# EAGLE library part ISL12024IBZ (library Intersil_By_element14_Batch_1)
Real-Time Clock/Calendar with Embedded Unique ID
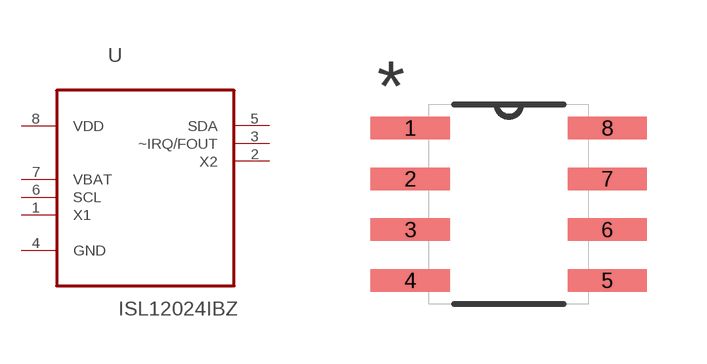
[diagram p215: symbol with the pads of SOIC127P600X175-8N; footprint SOIC127P600X175-8N]

Designator prefix U

## ISL12024IBZ (MPN: ISL12024IBZ; OC_FARNELL: 1360964; OC_NEWARK: 20M5181; PACKAGE: SOIC-8; SUPPLIER: INTERSIL)  [SOIC127P600X175-8N]
1  X1  in
2  X2  out
3  ~IRQ/FOUT  out
4  GND  pas
5  SDA
6  SCL  in
7  VBAT  pwr
8  VDD  pwr

## Footprint SOIC127P600X175-8N (pad centres in mm)
smd 1.981 x 0.559: 1 -2.464,1.905; 2 -2.464,0.635; 3 -2.464,-0.635; 4 -2.464,-1.905; 5 2.464,-1.905; 6 2.464,-0.635; 7 2.464,0.635; 8 2.464,1.905